# Altium schematic symbol library XBP24-AUI-001.SchLib: 1 symbol
Pins are listed as number, name and electrical type; pins without a type are passive.

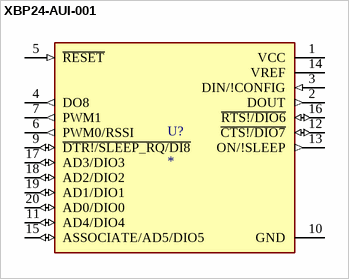
[diagram p0: symbol XBP24-AUI-001]

## XBP24-AUI-001
designator U?
Xbee-Pro 802.15.4, 63mw, Wire Antenna, 250000 Bps; Higher Tran; MP: XBP24-AUI-001; Package: None; Price: None; Value: *; Availability: Unavailable
footprint XBP24-AUI-001
pins: 1 VCC (power), 2 DOUT (out), 3 DIN/!CONFIG (in), 4 DO8 (out), 5 ~{RESET} (in), 6 PWM0/RSSI (out), 7 PWM1 (out), 9 ~{DTR!/SLEEP_RQ/DI8} (io), 10 GND (power), 11 AD4/DIO4 (io), 12 ~{CTS!/DIO7} (io), 13 ON/!SLEEP (out), 14 VREF (power), 15 ASSOCIATE/AD5/DIO5 (io), 16 ~{RTS!/DIO6} (io), 17 AD3/DIO3 (io), 18 AD2/DIO2 (io), 19 AD1/DIO1 (io), 20 AD0/DIO0 (io)